# Altium integrated library Integrated_Library1.IntLib: 17 symbols
Pins are listed as number, name and electrical type; pins without a type are passive.

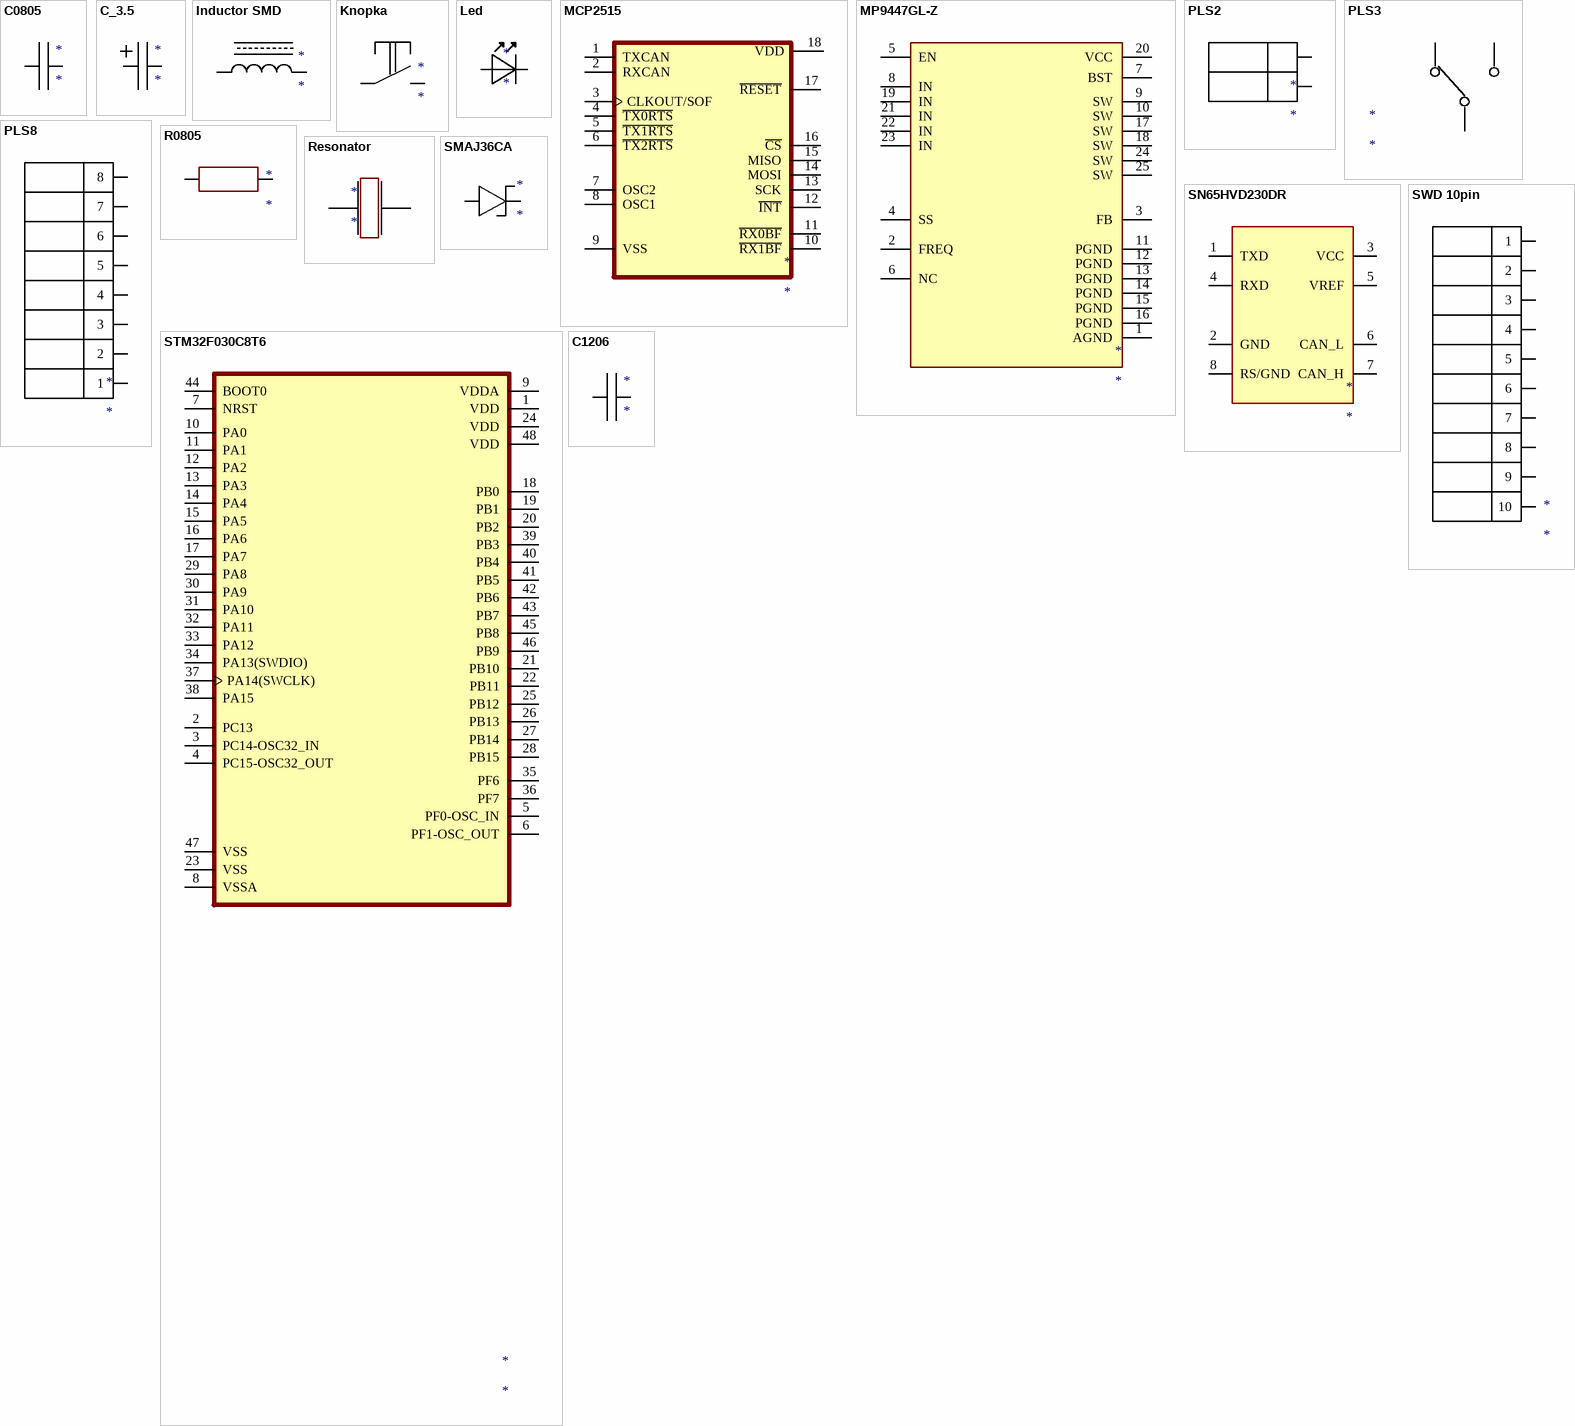
[diagram p0: symbols C0805 to С1206]

## C0805
designator *
Керамический конденсатор. 1uF,10uF,106uF,33pF,100uF
footprint C0805
pins: 1, 2

## C_3.5
designator *
Электролит конденсатор (8x12мм)
footprint CAP_3.5 (8x12мм)
pins: 1, 2

## Inductor SMD
designator *
Катушка индуктивности SMD экранированная 10мкГн +20% 6,8A 36,5мОм 4040 лента на катушке. name-IHLP4040DZER100M01
footprint Inductor 10uH 8A
pins: 1, 2

## Knopka
designator *
SMD
footprint knopka
pins: 1, 2

## Led
designator *
SMD 0805
footprint LED0805
pins: A 1 "KPT-2012 (SMD_LED)", C 2 "KPT-2012 (SMD_LED)"

## MCP2515
designator *
MCP2515-I/SO
footprint MCP2515
pins: 1 TXCAN, 2 RXCAN, 3 CLKOUT/SOF, 4 ~{TX0RTS}, 5 ~{TX1RTS}, 6 ~{TX2RTS}, 7 OSC2, 8 OSC1, 9 VSS, 10 ~{RX1BF}, 11 ~{RX0BF}, 12 ~{INT}, 13 SCK, 14 MOSI, 15 MISO, 16 ~{CS}, 17 ~{RESET}, 18 VDD

## MP9447GL-Z
designator *
Микросхема понижающего импульсного стабилизатора напряжения (Buck Switching Regulator IC), регулировка положительного напряжения 0,8 В, 1 выход, 5 А, 20-VFQFN, открытая контактная площадка.
footprint MP9447GL-Z
pins: 1 AGND, 2 FREQ, 3 FB, 4 SS, 5 EN, 6 NC, 7 BST, 8 IN, 9 SW, 10 SW, 11 PGND, 12 PGND, 13 PGND, 14 PGND, 15 PGND, 16 PGND, 17 SW, 18 SW, 19 IN, 20 VCC, 21 IN, 22 IN, 23 IN, 24 SW, 25 SW

## PLS2
designator *
pins: 1, 2

## PLS3
designator *
для джампера
footprint PLS3
pins: 1, 2 5, 3

## PLS8
designator *
footprint PLS8
pins: 1, 2, 3, 4, 5, 6, 7, 8

## R0805
designator *
SMD
footprint R0805
pins: 1, 2

## Resonator
designator *
footprint Resonator
pins: 1, 2

## SMAJ36CA
designator *
TVS-диод (Transient Voltage Suppressor)Рабочее напряжение (stand-off): 36 В / Пробой: ~40–44 В / Ограничение (clamping): ~58 В / Импульсная мощность: 400 Вт / Тип: двунаправленный (CA)
footprint SMAJ36CA
pins: 1, 2

## SN65HVD230DR
designator *
трансивер, 1Мбит/с, 3-3,6ВDC, SO8
footprint SN65HVD230DR
pins: 1 TXD, 2 GND, 3 VCC, 4 RXD, 5 VREF, 6 CAN_L, 7 CAN_H, 8 RS/GND

## STM32F030C8T6
designator *
footprint STM32F030C8T6
pins: 1 VDD, 2 PC13, 3 PC14-OSC32_IN, 4 PC15-OSC32_OUT, 5 PF0-OSC_IN, 6 PF1-OSC_OUT, 7 NRST, 8 VSSA, 9 VDDA, 10 PA0, 11 PA1, 12 PA2, 13 PA3, 14 PA4, 15 PA5, 16 PA6, 17 PA7, 18 PB0, 19 PB1, 20 PB2, 21 PB10, 22 PB11, 23 VSS, 24 VDD, 25 PB12, 26 PB13, 27 PB14, 28 PB15, 29 PA8, 30 PA9, 31 PA10, 32 PA11, 33 PA12, 34 PA13(SWDIO), 35 PF6, 36 PF7, 37 PA14(SWCLK), 38 PA15, 39 PB3, 40 PB4, 41 PB5, 42 PB6, 43 PB7, 44 BOOT0, 45 PB8, 46 PB9, 47 VSS, 48 VDD

## SWD 10pin
designator *
footprint SWD 10 pin
pins: 1, 2, 3, 4, 5, 6, 7, 8, 9, 10

## С1206
designator *
Кермаический конденсатор
footprint C1206
pins: 1, 2